# EAGLE library part NRF24L01+ (library nRF24L01P)
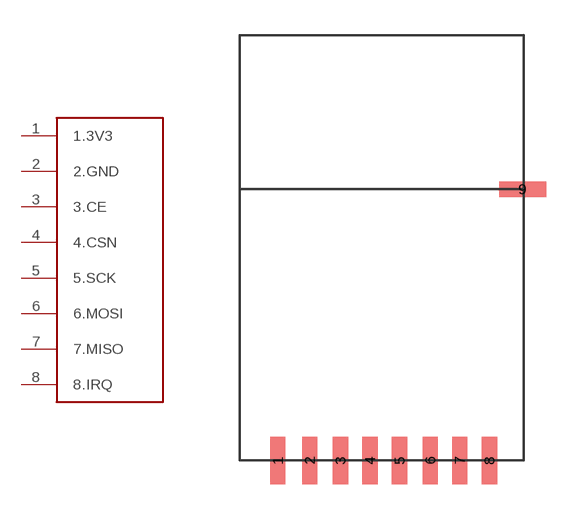
[diagram p0: symbol with the pads of NRF24L01+; footprint NRF24L01+]

Designator prefix -

## NRF24L01+  [NRF24L01+]
1  1.3V3
2  2.GND
3  3.CE
4  4.CSN
5  5.SCK
6  6.MOSI
7  7.MISO
8  8.IRQ

## Footprint NRF24L01+ (pad centres in mm)
smd 0.65 x 2: 1 1.6,0; 2 2.95,0; 3 4.25,0; 4 5.5,0; 5 6.75,0; 6 8.05,0; 7 9.3,0; 8 10.55,0
smd 2 x 0.65: 9 11.96,11.49